# EAGLE library part PINHD-2X4 (library pinhead)
PIN HEADER
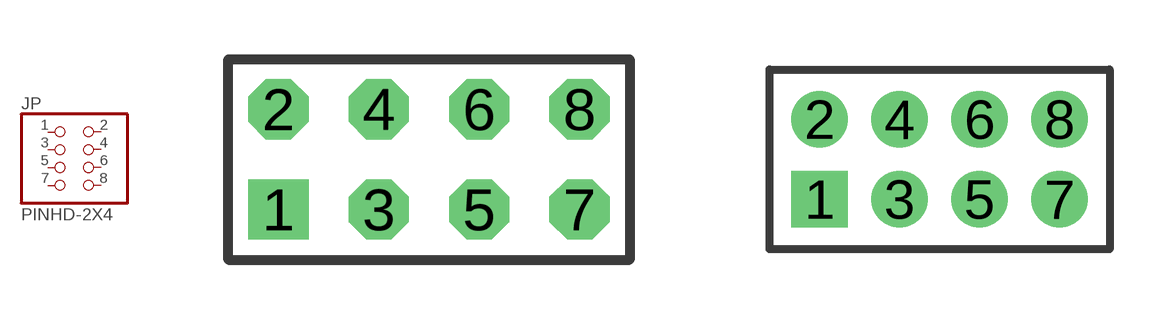
[diagram p27: symbol with the pads of 2X04; footprints 2X04, 2X04M]

Designator prefix JP

## PINHD-2X4  [2X04]
1  1  pas
2  2  pas
3  3  pas
4  4  pas
5  5  pas
6  6  pas
7  7  pas
8  8  pas

## PINHD-2X4M  [2X04M]
Pads as for 2X04

## Footprint 2X04 (pad centres in mm)
PIN HEADER - 0.1"
drill 1.016 square: 1 -3.81,-1.27
drill 1.016 octagon: 2 -3.81,1.27; 3 -1.27,-1.27; 4 -1.27,1.27; 5 1.27,-1.27; 6 1.27,1.27; 7 3.81,-1.27; 8 3.81,1.27

## Footprint 2X04M (pad centres in mm)
PIN HEADER - 2MM"
drill 0.914 square: 1 -3,-1
drill 0.914 round: 2 -3,1; 3 -1,-1; 4 -1,1; 5 1,-1; 6 1,1; 7 3,-1; 8 3,1